# Altium schematic symbol library BatteryProtection.SchLib: 1 symbol
Pins are listed as number, name and electrical type; pins without a type are passive.

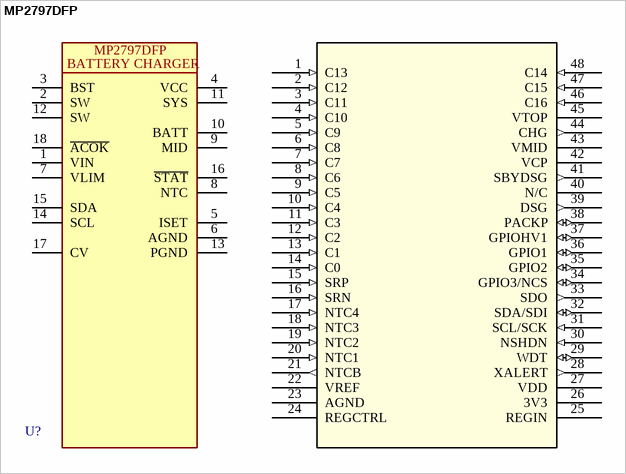
[diagram p0: symbol MP2797DFP]

## MP2797DFP
designator U?
7S - 16S, Battery Monitor and Protector with Coulomb Counting; Manufacturer 1: Monolithic Power Systems Inc.; Value: *; Manufacturer Part Number 1: *
footprint MP2797DFP (Footprint not found)
pins: 1 VIN, 1 C13 (in), 2 SW, 2 C12 (in), 3 BST, 3 C11 (in), 4 VCC, 4 C10 (in), 5 ISET, 5 C9 (in), 6 AGND, 6 C8 (in), 7 VLIM, 7 C7 (in), 8 NTC, 8 C6 (in), 9 MID, 9 C5 (in), 10 BATT, 10 C4 (in), 11 SYS, 11 C3 (in), 12 SW, 12 C2 (in), 13 PGND, 13 C1 (in), 14 SCL, 14 C0 (in), 15 SDA, 15 SRP (in), 16 ~{STAT}, 16 SRN (in), 17 CV, 17 NTC4 (in), 18 ~{ACOK}, 18 NTC3 (in), 19 NTC2 (in), 20 NTC1 (in), 21 NTCB (out), 22 VREF (power), 23 AGND (power), 24 REGCTRL (power), 25 REGIN (power), 26 3V3 (power), 27 VDD (power), 28 XALERT (out), 29 WDT (io), 30 NSHDN (in), 31 SCL/SCK (in), 32 SDA/SDI (io), 33 SDO (out), 34 GPIO3/NCS (io), 35 GPIO2 (io), 36 GPIO1 (io), 37 GPIOHV1 (io), 38 PACKP (io), 39 DSG (out), 40 N/C, 41 SBYDSG (out), 42 VCP (power), 43 VMID (power), 44 CHG (out), 45 VTOP (power), 46 C16 (in), 47 C15 (in), 48 C14 (in)
text: BATTERY CHARGER